# EAGLE library part TMP102AIDRLT (library Ava)
Temperature Sensor
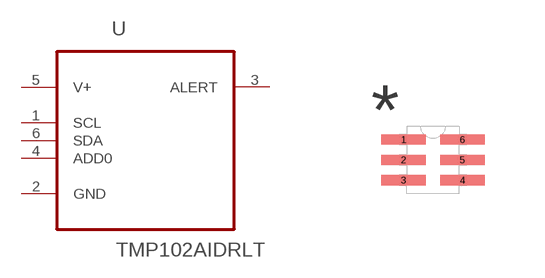
[diagram p28: symbol with the pads of SOT50P160X60-6N; footprint SOT50P160X60-6N]

Designator prefix U

## TMP102AIDRLT (MPN: TMP102AIDRLT; OC_FARNELL: 1652477; OC_NEWARK: 53M3987; PACKAGE: SOT-23-6; SUPPLIER: Texas Instruments)  [SOT50P160X60-6N]
1  SCL
2  GND  pas
3  ALERT  out
4  ADD0  in
5  V+  pwr
6  SDA

## Footprint SOT50P160X60-6N (pad centres in mm)
smd 1.118 x 0.254: 1 -0.737,0.508; 2 -0.737,0; 3 -0.737,-0.508; 4 0.737,-0.508; 5 0.737,0; 6 0.737,0.508